# Altium footprint library ESP32S2MINI.PcbLib: 1 footprints
Each footprint in its own frame and in the unit in brackets; x right, y up, seen from the top. Pads: shape width x height; smd on the part's side, far side on the other; paste and mask are expansions set on the pad; w line width, h text height; cw(c..) or ccw(c..) is an arc to the next point about the centre after c.
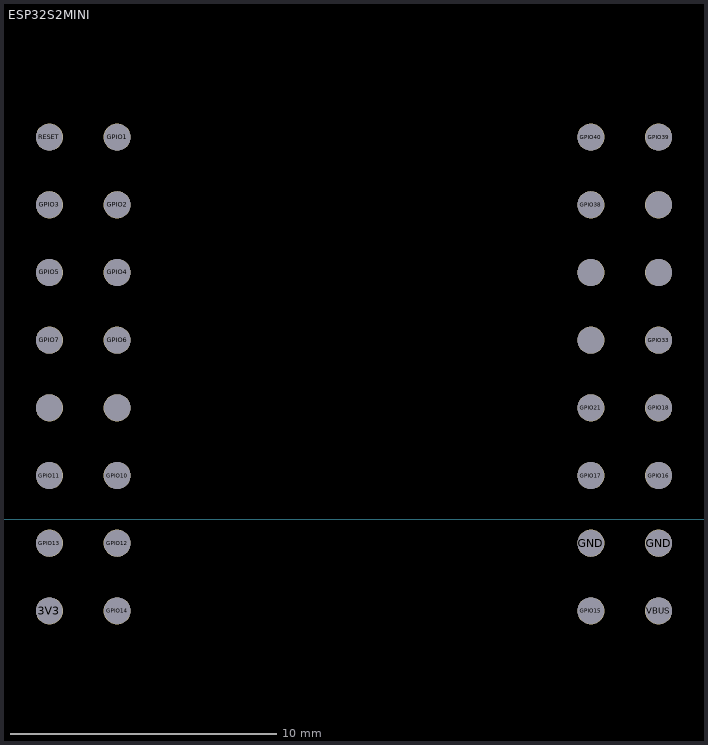
[diagram p0: the footprint, top view; thin cyan lines are the x and y axes]

## ESP32S2MINI [mm]
pads (32):
  round 1.02 hole 1: 3V3(32.14,-3.44) GND(52.46,-0.9) GND(55,-0.9) GPIO1(34.68,14.34) GPIO2(34.68,11.8) GPIO3(32.14,11.8) GPIO4(34.68,9.26) GPIO5(32.14,9.26) GPIO6(34.68,6.72) GPIO7(32.14,6.72) GPIO8/SDA(34.68,4.18) GPIO9/SCL(32.14,4.18) GPIO10(34.68,1.64) GPIO11(32.14,1.64) GPIO12(34.68,-0.9) GPIO13(32.14,-0.9) GPIO14(34.68,-3.44) GPIO15(52.46,-3.44) GPIO16(55,1.64) GPIO17(52.46,1.64) GPIO18(55,4.18) GPIO21(52.46,4.18) GPIO33(55,6.72) GPIO34/CS(52.46,6.72) GPIO35/MOSI(55,9.26) GPIO36/SCK(52.46,9.26) GPIO37/MISO(55,11.8) GPIO38(52.46,11.8) GPIO39(55,14.34) GPIO40(52.46,14.34) RESET(32.14,14.34) VBUS(55,-3.44)
3D body "Wemos S2 Mini V1.0.0.step": height 4.07, standoff -8.65, extent 30.857,-12.089 57.277,22.225